# Altium footprint library LED_0603_G.PcbLib: 1 footprints
Each footprint in its own frame and in the unit in brackets; x right, y up, seen from the top. Pads: shape width x height; smd on the part's side, far side on the other; paste and mask are expansions set on the pad; w line width, h text height; cw(c..) or ccw(c..) is an arc to the next point about the centre after c.
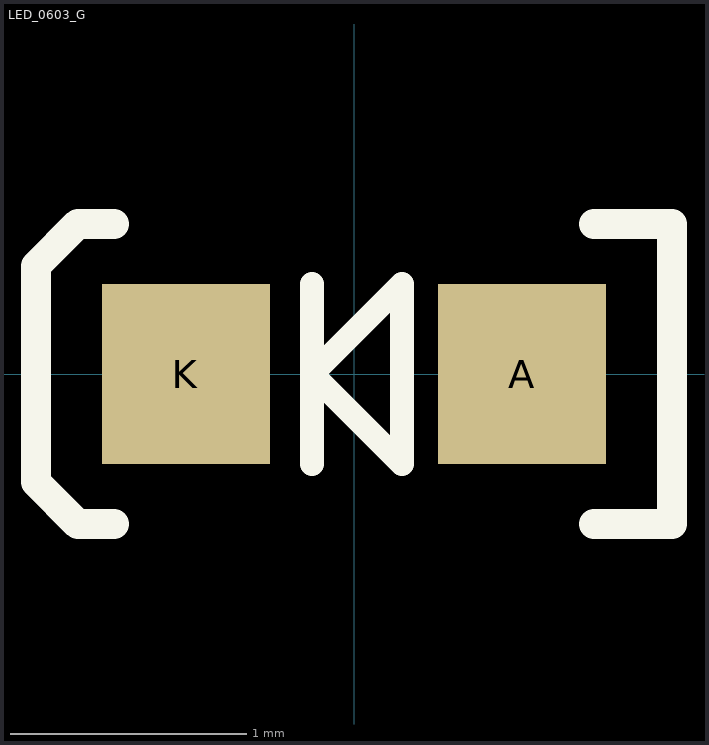
[diagram p0: the footprint, top view; thin cyan lines are the x and y axes]

## LED_0603_G [mil]
pads (2):
  rect 28x30 smd: A(28,0) K(-28,0)
TopOverlay:
  lines w3.94: -7,-15 -7,2 ; -7,15 -7,0 ; -7,0 8,-15 8,15 -7,0
  lines w5: -40,-25 -46,-25 -53,-18 -53,18 -46,25 -40,25 ; 40,-25 53,-25 53,25 40,25
3D body: height 43.31, standoff 0, extent -31.89,-16 31.89,15.5